# Altium schematic symbol library 2SK3541T2L.Schlib: 1 symbol
Pins are listed as number, name and electrical type; pins without a type are passive.

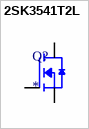
[diagram p0: symbol 2SK3541T2L]

## 2SK3541T2L
designator Q?
pins: 1 G, 2 S, 3 D